# Altium integrated library POWER CARD.IntLib: 40 symbols
Pins are listed as number, name and electrical type; pins without a type are passive.

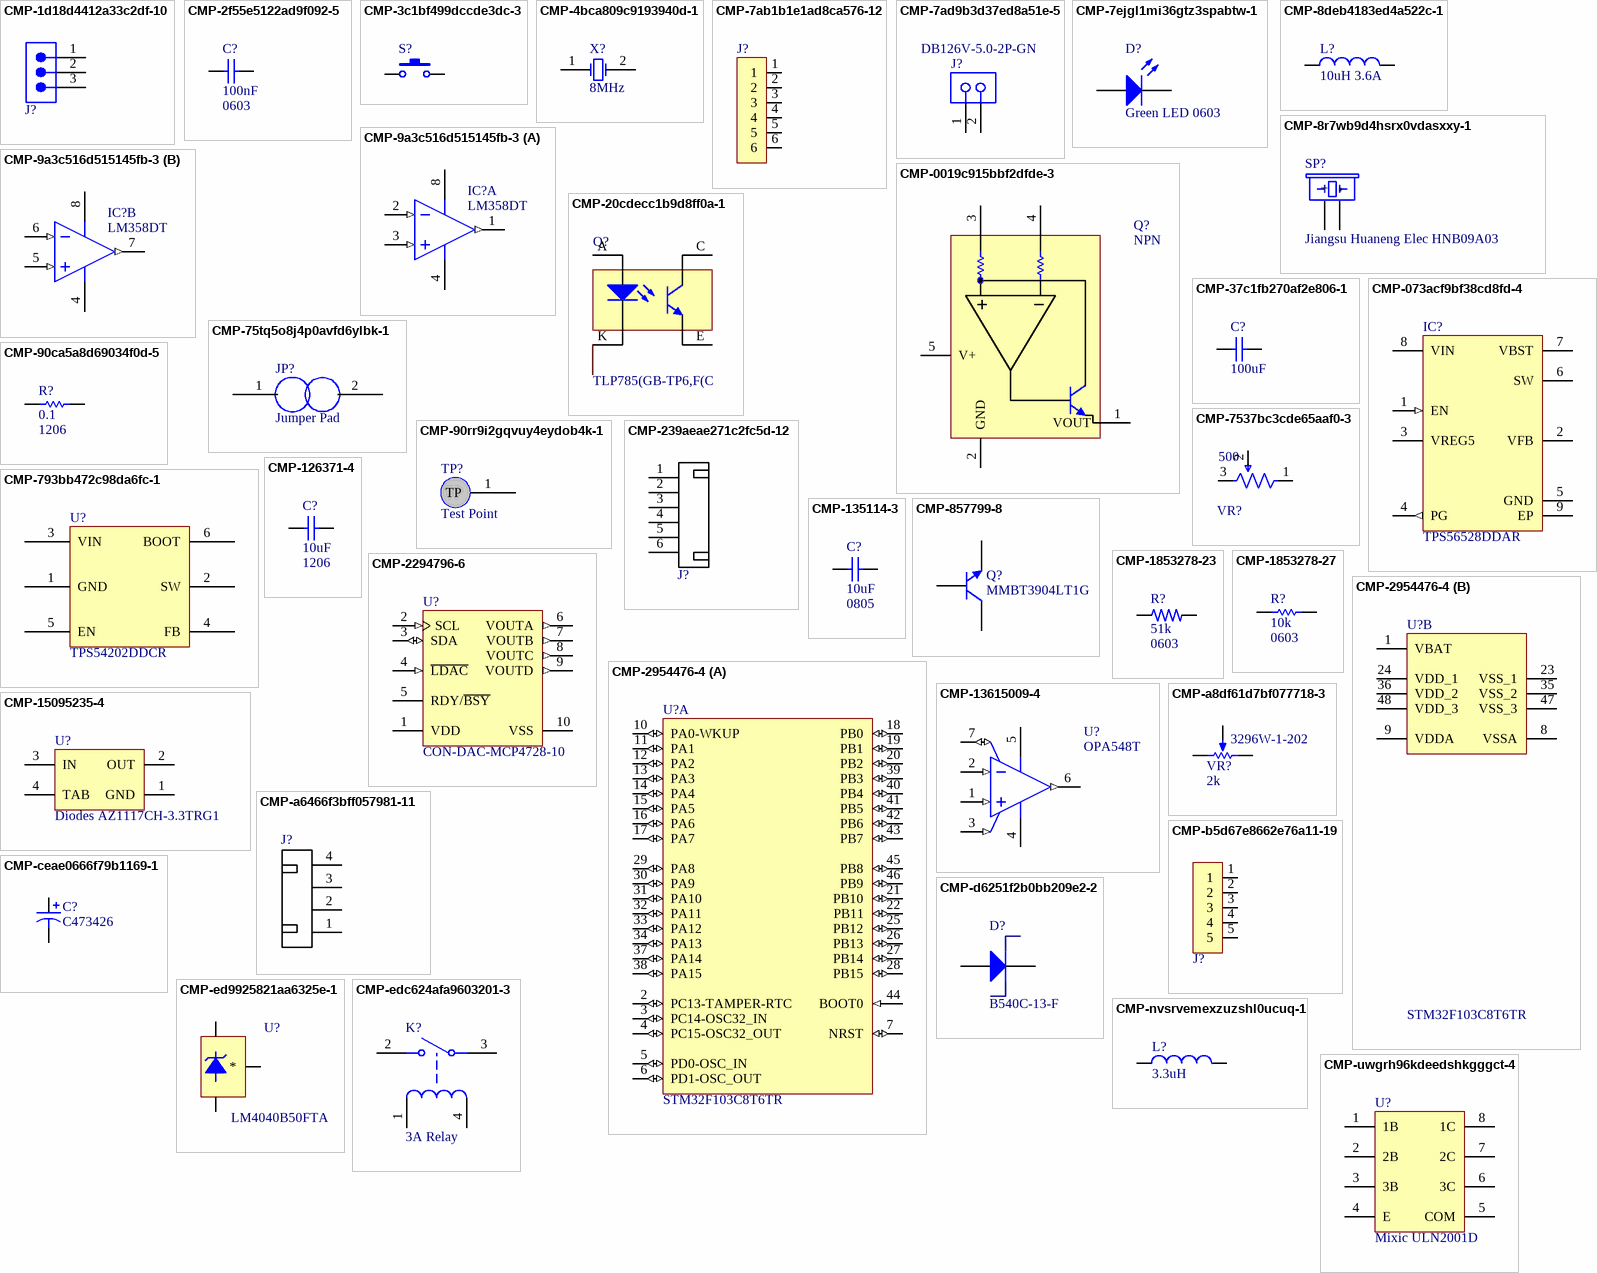
[diagram p0: symbols CMP-1d18d4412a33c2df-10 to CMP-uwgrh96kdeedshkgggct-4]

## CMP-1d18d4412a33c2df-10
designator J?, comment M20-9990346  (value not drawn)
HARWIN M20 Series, 2.54mm Pitch 3 Way 1 Row Straight PCB Header, Solder Termination, 3A
footprint PCB-qlw8evzkdr08cthfrp7e-1 (Footprint - M20-9990346)
footprint PIN_3x1_STR (2.54mm) (Footprint - M20-9990346)
footprint PCB-kxscps5p64q5f47tqd3e-1 (Footprint - M20-9990346)
pins: 1, 2, 3

## CMP-2f55e5122ad9f092-5
designator C?, comment 100nF  Package / Case: 0603
0603 10 nF 50 V ± 10% Tolerance X7R Surface Mount Multilayer Ceramic Capacitor; Manufacture Part Number: CC0603KRX7R9BB104; Manufacturer: YAGEO; Voltage-Rated: 50V; Capacitance Tolerance: 10%; Capacitance: 100nF; Supplier: LCSC; Supplier Part Number: C14663
footprint CAPC1608X90X35NL15T15
footprint CAPC1608X90X35LL15T15
simulation model SIM-no9t85n8kjw1vco1f364-1 (Sim Model - AVX 06035C103KAT2A)
footprint CAPC1608X90X35ML15T15
footprint CAPC1608X09N (Footprint - 10nF)
pins: 1, 2

## CMP-3c1bf499dccde3dc-3
designator S?
Switch Tactile N.O. SPST Rectangular Button Gull Wing 0.05A 12VDC 2.45N SMD; Manufacture Part Number: K2-1107ST-A4SW-06; Manufacturer: Korean Hroparts Elec; Lead-Free Status: Lead Free; RoHS: Compliant; Supplier Part Number: C118141; Supplier: LCSC
footprint PCB-884bonwl6v4pb9lbnr4u-1 (Footprint - RS282G05A3SMRT)
pins: 1, 2

## CMP-4bca809c9193940d-1
designator X?, comment 8MHz
Microprocessor, Crystal; 8 MHz; 30 ppm (Typ.) @ degC; 7 pF (Max.); 20 pF; Manufacturer Part Number: XT9S20ANA8M; Manufacturer: Yangxing Tech; Equivalent Series Resistance (ESR): 80.0 Ω; OctopartID: 4bca809c9193940d; Packaging: Bulk; Octopart Url: http://octopart.com/xt9s20ana8m-vishay+dale-39649087; Seller Landing  Url: https://octopart-clicks.com/click/track?country=US&ak=8157f166&sig=0e2aaf1&sid=2402&ppid=39649087&vpid=249355928&ct=offers; Mounting Style: Through Hole; Number of Pins: 2; Supplier: LCSC; Supplier Part Number: C21263
footprint XTAL1
pins: 1 X1, 2 X2

## CMP-7ab1b1e1ad8ca576-12
designator J?
MTA-100 Series 6 Position 2.54 mm Pitch Single Row Tin Plated Header; Size-Height: 2.54 mm
footprint PCB-oudem42uhcimrbfznktg-1 (Footprint - TE Connectivity / AMP 3-644456-6)
pins: 1, 2, 3, 4, 5, 6

## CMP-7ad9b3d37ed8a51e-5
designator J?, comment DB126V-5.0-2P-GN
Block, Terminal; 13.5 A; 250 V; 5 mm; 26 to 16 AWG; 2; Screw; Solder; 4 kV; PA; Manufacturer: DIBO; Pin pitch: 5.0mm; Manufacture Part Number: DB126V-5.0-2P-GN; Supplier: LCSC; Supplier Part Number: C395849
footprint PCB-kiok1jlp9o9fcwf1wwvf-1 (Footprint - Phoenix Contact 1729018)
pins: 1, 2

## CMP-7ejgl1mi36gtz3spabtw-1
designator D?, comment Green LED 0603
Generic LED 0603; Manufacturer: Orient; Manufacture Part Number: ORH-G36G; Forward Voltage: 2.8V; Color: Green; Supplier: LCSC; Supplier Part Number: C205443
footprint PCBComponent_1 (Footprint -)
pins: 1 A, 2 K

## CMP-8deb4183ed4a522c-1
designator L?, comment 10uH 3.6A
Inductor Power Shielded Wirewound 10uH 20% 100KHz Metal 4.2A 86.35mOhm DCR Automotive T/R; Manufacturer Part Number: SPM6530T-100M-HZ; Octopart URL: https://octopart.com/spm6530t-100m-hz-tdk-90326471; OctopartID: 8deb4183ed4a522c
footprint PCB-aqghgth2fl3irtnr7nhi-1 (Footprint - TDK SPM6530T-100M-HZ)
pins: 1, 2

## CMP-8r7wb9d4hsrx0vdasxxy-1
designator SP?, comment Jiangsu Huaneng Elec HNB09A03
Magnetic YES 3000±300Hz 90dB @ 3V, 10cm 3V ?9mm 9*5.5mm Buzzers RoHS; CustomComponentID: 8r7wb9d4hsrx0vdasxxy
footprint PCB-gql0f0yk39bxcwo1gexj-1 (Footprint - Jiangsu Huaneng Elec HNB09A03)
pins: 1 +, 2 -

## CMP-9a3c516d515145fb-3
designator IC?, comment LM358DT
LM358 Series 30 V 1.1 MHz Low Power Dual Operational Amplifier - SOIC-8; Slew Rate: 600 mV/μs; Number of Channels: 2; Gain Bandwidth Product: 1.10 MHz; Supply Current: 700 µA; Lead-Free Status: Lead Free; Supply Voltage (DC): 32.0 V; Lifecycle Status: Active; Manufacturer Part Number: LM358DT; REACH SVHC Compliance: No SVHC; Octopart URL: https://octopart.com/lm358dt-stmicroelectronics-39579147; RoHS: Compliant; Number of Pins: 8; Bandwidth: 1.10 MHz; Number of Circuits: 2; Packaging: Cut Tape (CT), Tape & Reel (TR); Mounting Style: Surface Mount; Case/Package: SOIC; OctopartID: 9a3c516d515145fb
footprint SOIC-OA8_L (SOIC, 8-Leads, Body 4.9x3.9mm, Pitch 1.27mm, IPC High Density)
footprint SOIC-OA8_N (SOIC, 8-Leads, Body 4.9x3.9mm, Pitch 1.27mm, IPC Medium Density)
footprint SOIC-OA8_M (SOIC, 8-Leads, Body 4.9x3.9mm, Pitch 1.27mm, IPC Low Density)
pins on every part: 4 VEE/GND (power), 8 VCC (power)
part A pins: 1 OUTA (out), 2 INA- (in), 3 INA+ (in)
part B pins: 5 INB+ (in), 6 INB- (in), 7 OUTB (out)

## CMP-0019c915bbf2dfde-3
designator Q?, comment NPN
36-V, High-Side, Current Output Current Shunt Monitor 5-SOT-23 -40 to 125; Case/Package: SOT-23
footprint PCB-h3r3bzz71pyabhalkrge-1 (Footprint - Texas Instruments INA138NA/3K)
pins: 1 VOUT, 2 GND, 3, 4, 5 V+

## CMP-20cdecc1b9d8ff0a-1
designator Q?, comment TLP785(GB-TP6,F(C
Optocoupler DC-IN 1-CH Transistor DC-OUT 4-Pin PDIP SMD Black Box; Manufacturer: TOSHIBA; Supplier: LCSC; Part: TLP785(GB-TP6,F(C; Supplier Part Number: C45445
footprint PCB-tryrgihdrozpg2dv6q87-1 (Footprint - Avago ACPL-217-500E)
pins: A, C, E, K

## CMP-37c1fb270af2e806-1
designator C?, comment 100uF
Footprint for Rubycon 50YXF100MFFC8X11.5; Capacitance Tolerance: 20%; Voltage Rated: 50V; Manufacture Part Number: 50YXF100MFFC8X11.5; Capacitance: 100uF; Manufacturer: Rubycon; Package / Case: *; Supplier: LCSC; Supplier Part Numbeer: C324036
footprint PCB-qvt8zv9h5ffid452gs9x-1 (Footprint - Rubycon 50YXF100MFFC8X11.5)
pins: 1, 2

## CMP-073acf9bf38cd8fd-4
designator IC?, comment TPS56528DDAR
4.5V to 18V Input, 5-A Synchronous Step-Down Converter with Advanced Eco-mode™ 8-SO PowerPAD -40 to 125; Topology: Buck; Number of Regulated Outputs: 1; RoHS: Compliant; Manufacturer Part Number: TPS56528DDAR
footprint PCB-duyb6heo4lj5grkfxin6-1 (Footprint - Texas Instruments TPS56528DDAR)
pins: 1 EN (in), 2 VFB, 3 VREG5, 4 PG (out), 5 GND, 6 SW, 7 VBST, 8 VIN, 9 EP

## CMP-75tq5o8j4p0avfd6ylbk-1
designator JP?, comment Jumper Pad
JP; CustomComponentID: 75tq5o8j4p0avfd6ylbk
footprint PCB-sjva3kmaxrqfkswkvsp7-1 (Footprint - Jumper Pad)
pins: 1, 2

## CMP-90ca5a8d69034f0d-5
designator R?, comment 0.1  Package / Case: 1206
Res Thick Film 3.2 x 1.6 mm 10K Ohm 1% 0.25W(1/4W) 100ppm/ C Molded SMD Paper T/R; Manufacture Part Number: 1206W4F100LT5E; Manufacturer: UNI-ROYAL(Uniroyal Elec); Resistance: 0.1; Resistance Tolerance: 1%; Supplier: LCSC; Supplier Part Number: C25334
footprint RESC3116X07N (Footprint - Yageo RC1206FR-0710KL)
footprint RESC3116X07M (Footprint - Yageo RC1206FR-0710KL)
footprint RESC3116X07L (Footprint - Yageo RC1206FR-0710KL)
pins: 1, 2

## CMP-90rr9i2gqvuy4eydob4k-1
designator TP?, comment Test Point
TP; CustomComponentID: 90rr9i2gqvuy4eydob4k
footprint PCB-76sf9akqozhr8i1vmz2c-1 (Footprint - Test Point)
pins: 1 TP

## CMP-239aeae271c2fc5d-12
designator J?, comment JST S6B-XH-A  (value not drawn)
Socket; wire-board; male; PIN: 6; 2.5mm; THT; XH; 250V; 3A; -25÷85°C; Manufacturer: JST Sales America; Manufacture Part Number: S6B-XH-A(LF)(SN); Lead-Free Status: Lead Free; Voltage Rating (AC): 250 V; Orientation: Right Angle; Supplier: LCSC; Supplier Part Number: C157919
footprint JST S6B-XH-A (Footprint - JST S6B-XH-A (LF)(SN))
pins: 1, 2, 3, 4, 5, 6

## CMP-793bb472c98da6fc-1
designator U?, comment TPS54202DDCR
Conv DC-DC 4.5V to 28V Synchronous Step Down Single-Out -0.1V to 28V 2A 6-Pin TSOT-23 T/R; Manufacturer: Texas Instruments; Manufacture Part Number: TPS54202DDCR
footprint PCB-3e3nvufahczdahdcyxrk-1 (Footprint - Texas Instruments TPS54202DDCR)
pins: 1 GND, 2 SW, 3 VIN, 4 FB, 5 EN, 6 BOOT

## CMP-7537bc3cde65aaf0-3
designator VR?, comment 500
Trimmer; Cermet; Rest 500 Ohms; PCB; 25 Turns; Pwr-Rtg 0.5W; Manufacture Part Number: 3296W-1-501; Manufacturer: BOCHEN(Chengdu Guosheng Tech); Voltage Rating (DC) 300v: 300 V; Temperature Coefficient: -100 ppm/°C to 100 ppm/°C; Supplier: LCSC; Supplier Part Number: C118913; Resistance: 500
footprint PCB-bjapmp3h4uzsxmhlzpoi-1 (Footprint - Bourns 3296W-1-501LF)
footprint PCB-8uuv2uwn1geg2g5qqyha-1 (Footprint - Bourns 3296X-1-501LF)
pins: 1 CCW, 2 CW, 3 CW

## CMP-126371-4
designator C?, comment 10uF  Package / Case: 1206
CAP CER 0.1UF 100V 10% X7R 1206; Manufacturer: Samsung Electro-Mechanics; Manufacture Part Number: CL31B106KBHNNNE; Voltage-Rated: 50V; Supplier: LCSC; Capacitance: 10uF; Capacitance Tolerance: 10%
footprint CAPC3216X127X50ML20T25
footprint CAPC3216X127X50LL20T25
footprint CAPC3216X127X50NL20T25
pins: 1, 2
1 alternate drawing of the same symbol

## CMP-135114-3
designator C?, comment 10uF  Package / Case: 0805
Cap Ceramic 0.1uF 50V X7R 10% SMD 0805 125C Embossed T/R; Manufacture Part Number: CL21B106KOQNNNE; Manufacturer: Samsung Electro-Mechanics; Voltage-Rated: 16V; Capacitance Tolerance: *; Capacitance: 10uF; Supplier: LCSC; Supplier Part Number: C95841
footprint CAPC2013X140X45NL15T25
footprint CAPC2013X140X45ML15T25
footprint CAPC2013X140X45LL15T25
footprint C0805 (Footprint - Murata GCM21BR71H104KA37L)
pins: 1, 2
1 alternate drawing of the same symbol

## CMP-857799-8
designator Q?, comment MMBT3904LT1G
MMBT Series 40 V 200 mA SMT NPN Silicon General Purpose Transistor - SOT-23; Manufacturer: ON Semiconductor; Supplier Part Number: C81464; Supplier: LCSC; Manufacture Part Number: MMBT3904LT1G
footprint SOT-23 (Footprint - ON Semiconductor MMBT3906LT1G)
pins: 1 B, 2 E, 3 C

## CMP-1853278-23
designator R?, comment 51k  Package / Case: 0603
Surface Mount Thick Film Resistor, RC Series, 1 kohm, 100 mW, - 1%, 50 V, 0603 [1608 Metric]; Manufacturer: Walsin Tech Group; Manufacture Part Number: WR06X513 JTL; Resistance Tolerance: 1%; Resistance: 51k; Supplier: LCSC; Supplier Part Number: C384211
footprint PCB-3elf45qdqizoabmczrxc-1 (Footprint - Yageo RC0603FR-071KL)
footprint RESC1608X55X25NL10T15 (Footprint - Yageo RC0603FR-071KL)
footprint PCB-3hliodl2wc5u86wutd2h-1 (Footprint - Yageo RC0603FR-071KL)
footprint PCB-c56upckieq4snpr883xl-1 (Footprint - Yageo RC0603FR-071KL)
footprint PCB-flrvdajmcioznvlehhsq-1 (Footprint - Yageo RC0603FR-0710KL)
footprint R0603 (Footprint - Yageo RC0603FR-071KL)
pins: 1, 2
1 alternate drawing of the same symbol

## CMP-1853278-27
designator R?, comment 10k  Package / Case: 0603
Surface Mount Thick Film Resistor, RC Series, 1 kohm, 100 mW, - 1%, 50 V, 0603 [1608 Metric]; Manufacturer Part Number: RC0603FR-0710KL; Manufacturer: YAGEO; Resistance Tolerance: 1%; Manufacture Part Number: *; Supplier: LCSC; Supplier Part Number: C98220; Resistance: 10k; Resistance Tolarance: *
footprint PCB-c56upckieq4snpr883xl-1 (Footprint - Yageo RC0603FR-071KL)
footprint PCB-flrvdajmcioznvlehhsq-1 (Footprint - Yageo RC0603FR-0710KL)
footprint gen0603-2 (Footprint - Yageo RC0603FR-071KL)
footprint PCB-3hliodl2wc5u86wutd2h-1 (Footprint - Yageo RC0603FR-071KL)
footprint R0603 (Footprint - Yageo RC0603FR-071KL)
footprint RESC1608X55X25NL10T15 (Footprint - Yageo RC0603FR-071KL)
footprint PCB-3elf45qdqizoabmczrxc-1 (Footprint - Yageo RC0603FR-071KL)
pins: 1, 2
1 alternate drawing of the same symbol

## CMP-2294796-6
designator U?, comment CON-DAC-MCP4728-10
MCP4728 Series 4 Ch I2C EEPROM Memory 5.5 V 12-Bit D/A Converter SMT - MSOP-10; Manufacturer Part Number: MCP4728-E/UN; Supply Current: 800 µA; Number of Bits: 12; Octopart URL: http://octopart.com/mcp4728-e%2Fun-microchip-11800165; OctopartID: b4d07d6e9fd36b17; Mounting Style: Surface Mount; Lifecycle Status: Active; Number of Pins: 10; RoHS: Compliant; REACH SVHC Compliance: No SVHC
footprint PCB-psrfqusngns6snaz1e8o-1 (Footprint - Microchip MCP4728-E/UN)
pins: 1 VDD (power), 2 SCL (in), 3 SDA (io), 4 ~{LDAC} (in), 5 RDY/~{BSY} (oc), 6 VOUTA (out), 7 VOUTB (out), 8 VOUTC (out), 9 VOUTD (out), 10 VSS (power)

## CMP-2954476-4
designator U?, comment STM32F103C8T6TR
ARM Cortex-M3 32-bit MCU, 64 KB Flash, 20 KB Internal RAM, 37 I/Os, 48-pin LQFP, -40 to 85 degC, Tape and Reel; Lead-Free Status: Lead Free; Manufacturer Part Number: STM32F103C8T6TR; Lifecycle Status: Active; Octopart Url: https://octopart.com/stm32f103c8t6tr-stmicroelectronics-11955474; OctopartID: c3c10a7d8bb51c06; RoHS: Compliant
footprint STM-LQFP48_N (QFP, 48-Leads, Body 7x7mm, Pitch 0.5mm, IPC Medium Density)
footprint STM-LQFP48_L (QFP, 48-Leads, Body 7x7mm, Pitch 0.5mm, IPC High Density)
footprint STM-LQFP48_M (QFP, 48-Leads, Body 7x7mm, Pitch 0.5mm, IPC Low Density)
part A pins: 2 PC13-TAMPER-RTC (io) "PC13-TAMPER-RTC/PC13/TAMPER-RTC", 3 PC14-OSC32_IN (io) "PC14-OSC32_IN/PC14/OSC32_IN", 4 PC15-OSC32_OUT (io) "PC15-OSC32_OUT/PC15/OSC32_OUT", 5 PD0-OSC_IN (io) "PD0/OSC_IN", 6 PD1-OSC_OUT (io) "PD1/OSC_OUT", 7 NRST (io), 10 PA0-WKUP (io) "PA0-WKUP/PA0/WKUP/USART2_CTS/ADC12_IN0/TIM2_CH1_ETR", 11 PA1 (io) "PA1/USART2_RTS/ADC12_IN1/TIM2_CH2", 12 PA2 (io) "PA2/USART2_TX/ADC12_IN2/TIM2_CH3", 13 PA3 (io) "PA3/USART2_RX/ADC12_IN3/TIM2_CH4", 14 PA4 (io) "PA4/SPI1_NSS/USART2_CK/ADC12_IN4", 15 PA5 (io) "PA5/SPI1_SCK/ADC12_IN5", 16 PA6 (io) "PA6/SPI1_MISO/ADC12_IN6/TIM3_CH1/TIM1_BKIN", 17 PA7 (io) "PA7/SPI1_MOSI/ADC12_IN7/TIM3_CH2/TIM1_CH1N", 18 PB0 (io) "PB0/ADC12_IN8/TIM3_CH3/TIM1_CH2N", 19 PB1 (io) "PB1/ADC12_IN9/TIM3_CH4/TIM1_CH3N", 20 PB2 (io) "PB2/BOOT1", 21 PB10 (io) "PB10/I2C2_SCL/USART3_TX/TIM2_CH3", 22 PB11 (io) "PB11/I2C2_SDA/USART3_RX/TIM2_CH4", 25 PB12 (io) "PB12/SPI2_NSS/I2C2_SMBAl/USART3_CK/TIM1_BKIN", 26 PB13 (io) "PB13/SPI2_SCK/USART3_CTS/TIM1_CH1N", 27 PB14 (io) "PB14/SPI2_MISO/USART3_RTS/TIM1_CH2N", 28 PB15 (io) "PB15/SPI2_MOSI/TIM1_CH3N", 29 PA8 (io) "PA8/USART1_CK/TIM1_CH1/MCO", 30 PA9 (io) "PA9/USART1_TX/TIM1_CH2", 31 PA10 (io) "PA10/USART1_RX/TIM1_CH3", 32 PA11 (io) "PA11/USART1_CTS/CANRX/USBDM/TIM1_CH4", 33 PA12 (io) "PA12/USART1_RTS/CANTX/USBDP/TIM1_ETR", 34 PA13 (io) "PA13/JTMS/SWDIO", 37 PA14 (io) "PA14/JTCK/SWCLK", 38 PA15 (io) "PA15/JTDI/TIM2_CH1_ETR/SPI1_NSS", 39 PB3 (io) "PB3/JTDO/TIM2_CH2/TRACESWO/SPI1_SCK", 40 PB4 (io) "PB4/NJTRST/TIM3_CH1/SPI1_MISO", 41 PB5 (io) "PB5/I2C1_SMBAI/TIM3_CH2/SPI1_MOSI", 42 PB6 (io) "PB6/I2C1_SCL/TIM4_CH1/USART1_TX", 43 PB7 (io) "PB7/I2C1_SDA/TIM4_CH2/USART1_RX", 44 BOOT0 (in), 45 PB8 (io) "PB8/TIM4_CH3/I2C1_SCL/CANRX", 46 PB9 (io) "PB9/TIM4_CH4/I2C1_SDA/CANTX"
part B pins: 1 VBAT (power), 8 VSSA (power), 9 VDDA (power), 23 VSS_1 (power), 24 VDD_1 (power), 35 VSS_2 (power), 36 VDD_2 (power), 47 VSS_3 (power), 48 VDD_3 (power)

## CMP-13615009-4
designator U?, comment OPA548T
High-Voltage, High-Current Operational Amplifier, Excellent Output Swing, 8 to 60 V, -40 to 85 degC, 7-pin FM (KVT7), Green (RoHS & no Sb/Br); Bandwidth: 1000000.0 Hz; Input Offset Drift: 3e-05 V/K; Lead-Free Status: Lead Free; Number of Channels: 1; Slew Rate: 10.0 V/μs; Supply Voltage (DC): 60.0 V; Manufacturer Part Number: OPA548T; Gain Bandwidth Product: 1000000.0 Hz; Lifecycle Status: Active; Mounting Style: Through Hole; Number of Circuits: 1; Number of Pins: 7; Octopart Url: https://octopart.com/opa548t-texas+instruments-420784; OctopartID: 076ece6249b8d8a9; Packaging: Bulk; REACH SVHC Compliance: No SVHC; RoHS: Compliant
footprint TI-KVT7 (FM, 7-Leads, Body 10.16x4.495mm, Pitch 1.27mm)
pins: 1 VIN+ (in), 2 VIN- (in), 3 ILIM (in), 4 V- (power), 5 V+ (power), 6 VO (out), 7 E/S (io)

## CMP-15095235-4
designator U?, comment Diodes AZ1117CH-3.3TRG1
IC REG LDO 3.3V 0.8A SOT223; Lead-Free Status: Lead Free; OctopartID: a6d46e06d6807913; Manufacturer Part Number: AZ1117CH-3.3TRG1; Octopart Url: https://octopart.com/az1117ch-3.3trg1-diodes+inc.-30954802; Lifecycle Status: Not Listed by Manufacturer; RoHS: Compliant
footprint PCB-15095235-1 (Footprint - Diodes AZ1117CH-3.3TRG1)
pins: 1 GND (power), 2 OUT (power), 3 IN (power), 4 TAB (power)

## CMP-a8df61d7bf077718-3
designator VR?, comment 2k  Manufacture Part Number: 3296W-1-202
Res Cermet Trimmer 2K Ohm 10% 1/2W 25(Elec)Turn 2.19mm (9.53 X 4.83 X 11.55mm) Pin Thru-Hole Tube; Manufacturer: BOCHEN(Chengdu Guosheng Tech); Power Rating: 500 mW; Size-Height: 10.0 mm; Supplier Part Number: C118206; Supplier: LCSC; Resistance: 2k
footprint PCB-5abvnr99iwiiosfurk6j-1 (Footprint - Bourns 3296W-1-202LF)
pins: 1 CCW, 2 WIPER, 3 CW

## CMP-a6466f3bff057981-11
designator J?
XH Series 4 Position 2.5 mm Pitch Through Hole Crimp Top Entry Shrouded Header; Manufacturer Part Number: B4B-XH-A (LF)(SN); Gender: Male; Voltage Rating (AC): 250 V; Current Rating: 3.00 A; Lead-Free Status: Lead Free; Contact Resistance: 10.0 mΩ; Company: JST; Insulation Resistance: 1.00 GΩ; Number of Contacts: 4; Contact Material: Brass; Contact Plating: Tin; Octopart URL: http://octopart.com/b4b-xh-a+%28lf%29%28sn%29-jst-7830565; Mounting Style: Through Hole, Vertical; RoHS: Compliant; OctopartID: a6466f3bff057981; REACH SVHC Compliance: No SVHC
footprint PCB-z52whxwf67d3eu6gna8s-1 (Footprint - B4B-XH-A (LF)(SN))
pins: 1, 2, 3, 4
2 alternate drawings of the same symbol

## CMP-b5d67e8662e76a11-19
designator J?, comment TE Connectivity / AMP 3-644456-5  (value not drawn)
MTA-100 5 Position Through-Hole Single Row Straight Wire to Board Header; Number of Positions: 5; Lead-Free Status: Lead Free; ELV Compliant: Compliant; Mounting Angle: 180 °; Shrouded: No; Gender: Male; Pin Pitch: 2.54 mm; Voltage Rating (AC): 250 V; Housing Color: Natural; Orientation: Vertical; Flammability Rating: UL 94 V-0; Manufacturer Part Number: 3-644456-5; Lifecycle Status: Active; RoHS: Compliant; Contact Material: Copper Alloy; Mounting Style: Through Hole; Housing Material: Polyester; Packaging: Box, Bag; Contact Plating: Tin; Size-Length: 12.4 mm; Number of Rows: 1; OctopartID: b5d67e8662e76a11; Octopart URL: http://octopart.com/3-644456-5-te+connectivity+%2F+amp-39514711; Number of Contacts: 5; Size-Height: 2.54 mm; Size-Width: 2.34 mm
footprint PCB-rnlen50cc5tt6vc22c1r-1 (Footprint - TE Connectivity / AMP 3-644456-5)
pins: 1, 2, 3, 4, 5

## CMP-ceae0666f79b1169-1
designator C?, comment C473426
Polymer capacitor [Panasonic Automotive & Industrial Systems] 35SVPF22M Polymer capacitor; Manufacturer Part Number: OCV220M1VTR-0606; Capacitance: 22uF; Voltage Rated: 35V; Size-Diameter: 6.30 mm; Supplier Part Number: C473426
footprint PCB-jngp9cavmssoy37xiwaz-1 (Footprint - Panasonic 25SVPF56M)
pins: 1, 2

## CMP-d6251f2b0bb209e2-2
designator D?, comment B540C-13-F
Diode, Schottky, 5a, 40v, Do-214ab-2, Full Reel; Manufacturer: Diodes Incorporated; Output Current: 5.00 A (max); Polarity: Standard; Capacitance: 300 pF; Voltage Rating (DC): 40.0 V; Lead-Free Status: Lead Free; Current Rating: 5.00 A; Supplier Part Number: C72264; Supplier: LCSC; OctopartID: d6251f2b0bb209e2; Number of Pins: 2; Octopart URL: http://octopart.com/b540c-13-f-diodes+inc.-325873; REACH SVHC Compliance: No SVHC; Manufacturer Part Number: B540C-13-F; Mounting Style: Surface Mount
footprint PCB-z3532lqu4iri8rzc55ux-1 (Footprint - Diodes Inc. B540C-13-F)
footprint DIOM7959X25N (Footprint - Diodes Inc. B540C-13-F)
pins: 1 A, 2 K

## CMP-ed9925821aa6325e-1
designator U?, comment LM4040B50FTA
LM4040 Series 5 V ±0.2 % Precision Micropower Shunt Voltage Reference - SOT-23; Temperature Coefficient: 20.0 ppm/°C; Manufacturer Part Number: LM4040B50FTA; Supplier: LCSC; Supplier Part Number: C460606
footprint PCB-bxhnyzncanvi69437o7v-1 (Footprint - Diodes Inc. LM4040B50FTA)
pins: 1 *, 2 -V, 3 +V

## CMP-edc624afa9603201-3
designator K?, comment 3A Relay
Power Relay 12VDC 3DC/5AAC SPST-NO( (20.5mm 7.2mm 15.3mm)) THT; Manufacturer: Omron Electronics; Manufacture Part Number: G5NB-1A-E-DC12; Supplier: LCSC; Supplier Part Number: C225714; Current-Rated: 3A
footprint PCB-ei6nokn2irsc2a7yt94x-1 (Footprint - Omron G5NB-1A-E-DC5V)
pins: 1, 2, 3, 4

## CMP-nvsrvemexzuzshl0ucuq-1
designator L?, comment 3.3uH
3.3uH ±20% 10A 11.8m? Power Inductors; Manufacturer: SXN; Manufacture Part Number: SMMS1040-3R3M; Supplier: LCSC; Supplier Part Number: C149592; Inductance: 3.3uH; Rated Current: 10A
footprint PCB-grsryisdn8451x3s484y-1 (Footprint - SXN SMMS1040-3R3M)
pins: 1, 2

## CMP-uwgrh96kdeedshkgggct-4
designator U?, comment Mixic ULN2001D
Darlington transistor array driver; CustomComponentID: uwgrh96kdeedshkgggct
footprint PCB-pxs93rufbf6wijgtyo7d-1 (Footprint - Mixic ULN2001D)
pins: 1 1B, 2 2B, 3 3B, 4 E, 5 COM, 6 3C, 7 2C, 8 1C

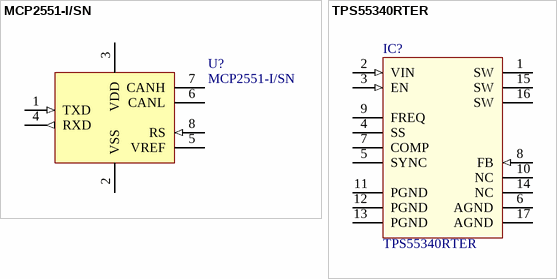
[diagram p1: symbols MCP2551-I/SN to TPS55340RTER]

## MCP2551-I/SN
designator U?
Microchip MCP2551-I/SN; CAN Transceiver1Mbit/s 1-channel ISO 11898; 8-Pin SOIC; Supply Current: 75.0 mA; Supply Voltage (DC): 4.50 V (min), 5.50 V (max); Slew Rate: 8.50 V/μs; Data Rate: 1.00 Mbps; Lead-Free Status: Lead Free; Packaging: Tube; Octopart URL: https://octopart.com/mcp2551-i%2Fsn-microchip-99155; REACH SVHC Compliance: No SVHC; Manufacturer Part Number: MCP2551-I/SN; Number of Pins: 8; Octopart ID: 0bb6c2bdad83d471; OctopartID: 0bb6c2bdad83d471
footprint PCB-j27wim3vo61mdxz6aows-1 (Footprint - Microchip MCP2551-I/SN)
footprint PCB-fljh6pkal3raf3vxg3gl-1 (Footprint - Microchip MCP2551-I/SN)
footprint PCB-7gd3831d3dbazv581e3n-1 (Footprint - Microchip MCP2551-I/SN)
pins: 1 TXD (in), 2 VSS (power), 3 VDD (power), 4 RXD (out), 5 VREF, 6 CANL, 7 CANH, 8 RS (in)

## TPS55340RTER
designator IC?
Integrated, 5-A 40-V Wide Input Range Boost/SEPIC/Flyback DC-DC Regulator 16-WQFN -40 to 150
footprint VfQFPN 3x3x1.0 16L (Footprint - STMicroelectronics STSPIN240)
pins: 1 SW, 2 VIN (in), 3 EN (in), 4 SS, 5 SYNC, 6 AGND (power), 7 COMP, 8 FB (in), 9 FREQ, 10 NC (power), 11 PGND (power), 12 PGND (power), 13 PGND (power), 14 NC (power), 15 SW, 16 SW, 17 AGND (power)